# Altium schematic symbol library GRM1555C1ER22BA01D.SchLib: 1 symbol
Pins are listed as number, name and electrical type; pins without a type are passive.

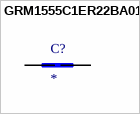
[diagram p0: symbol GRM1555C1ER22BA01D]

## GRM1555C1ER22BA01D
designator C?
CAP 0.22PF 25VDC C0G 0.1PF SMD 0402 PAPER TAPE; MP: GRM1555C1ER22BA01D; Package: None; Price: None; Value: *; Availability: Unavailable
footprint INDC1005X45
pins: 1, 2